# EAGLE library part PULSE_H1270 (library Traficon)
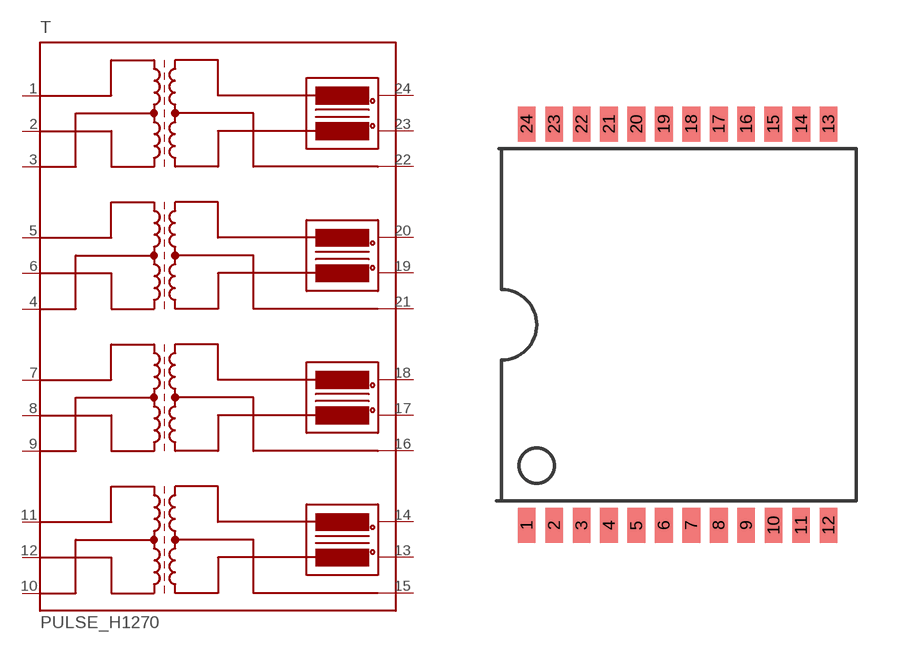
[diagram p165: symbol with the pads of PULSE_H1270; footprint PULSE_H1270]

Designator prefix T

## PULSE_H1270  [PULSE_H1270]
1  +TD1  pas
2  -TD1  pas
3  TDCT1  pas
4  RDCT2  pas
5  +RD2  pas
6  -RD2  pas
7  +TD3  pas
8  -TD3  pas
9  TDCT3  pas
10  RDCT4  pas
11  +RD4  pas
12  -RD4  pas
13  -RX4  pas
14  +RX4  pas
15  RXCT4  pas
16  TXCT3  pas
17  -TX3  pas
18  +TX3  pas
19  -RX2  pas
20  +RX2  pas
21  RXCT2  pas
22  TXCT1  pas
23  -TX1  pas
24  +TX1  pas

## Footprint PULSE_H1270 (pad centres in mm)
CT (12/03/2008): changed pin names to make it easier to check the package added half circle in silkscreen
smd 0.64 x 1.27: 1 -5.445,-7.24; 2 -4.455,-7.24; 3 -3.465,-7.24; 4 -2.475,-7.24; 5 -1.485,-7.24; 6 -0.495,-7.24; 7 0.495,-7.24; 8 1.485,-7.24; 9 2.475,-7.24; 10 3.465,-7.24; 11 4.455,-7.24; 12 5.445,-7.24; 13 5.445,7.24; 14 4.465,7.24; 15 3.455,7.24; 16 2.475,7.24; 17 1.485,7.24; 18 0.495,7.24; 19 -0.495,7.24; 20 -1.485,7.24; 21 -2.475,7.24; 22 -3.465,7.24; 23 -4.455,7.24; 24 -5.445,7.24